# Altium footprint library QFN40P1050X650X90_HS-77N.PcbLib: 1 footprints
Each footprint in its own frame and in the unit in brackets; x right, y up, seen from the top. Pads: shape width x height; smd on the part's side, far side on the other; paste and mask are expansions set on the pad; w line width, h text height; cw(c..) or ccw(c..) is an arc to the next point about the centre after c.
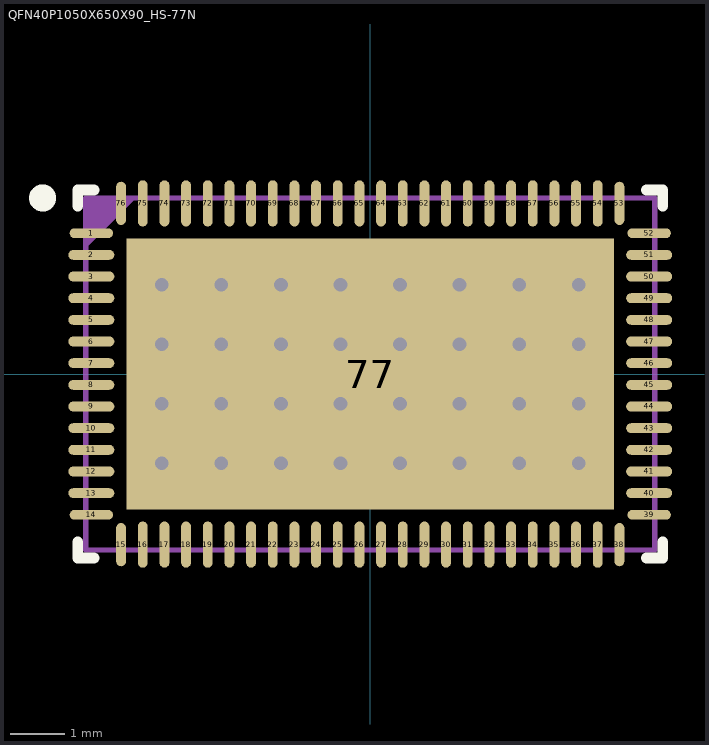
[diagram p0: the footprint, top view; thin cyan lines are the x and y axes]

## QFN40P1050X650X90_HS-77N [mm] "QFN, 76-Leads, Body 10,50x6,50mm, Pitch 0,40mm, Thermal Pad 9,00x5,00mm, IPC Medium Density"
height 0.9
pads (77):
  oval 0.8x0.182 smd mask+0.051: 1(-5.15,2.6) 14(-5.15,-2.6) 39(5.15,-2.6) 52(5.15,2.6)
  oval 0.85x0.182 smd mask+0.051: 2(-5.15,2.2) 3(-5.15,1.8) 4(-5.15,1.4) 5(-5.15,1) 6(-5.15,0.6) 7(-5.15,0.2) 8(-5.15,-0.2) 9(-5.15,-0.6) 10(-5.15,-1) 11(-5.15,-1.4) 12(-5.15,-1.8) 13(-5.15,-2.2) 40(5.15,-2.2) 41(5.15,-1.8) 42(5.15,-1.4) 43(5.15,-1) 44(5.15,-0.6) 45(5.15,-0.2) 46(5.15,0.2) 47(5.15,0.6) 48(5.15,1) 49(5.15,1.4) 50(5.15,1.8) 51(5.15,2.2)
  oval 0.182x0.8 smd mask+0.051: 15(-4.6,-3.15) 38(4.6,-3.15) 53(4.6,3.15) 76(-4.6,3.15)
  oval 0.182x0.85 smd mask+0.051: 16(-4.2,-3.15) 17(-3.8,-3.15) 18(-3.4,-3.15) 19(-3,-3.15) 20(-2.6,-3.15) 21(-2.2,-3.15) 22(-1.8,-3.15) 23(-1.4,-3.15) 24(-1,-3.15) 25(-0.6,-3.15) 26(-0.2,-3.15) 27(0.2,-3.15) 28(0.6,-3.15) 29(1,-3.15) 30(1.4,-3.15) 31(1.8,-3.15) 32(2.2,-3.15) 33(2.6,-3.15) 34(3,-3.15) 35(3.4,-3.15) 36(3.8,-3.15) 37(4.2,-3.15) 54(4.2,3.15) 55(3.8,3.15) 56(3.4,3.15) 57(3,3.15) 58(2.6,3.15) 59(2.2,3.15) 60(1.8,3.15) 61(1.4,3.15) 62(1,3.15) 63(0.6,3.15) 64(0.2,3.15) 65(-0.2,3.15) 66(-0.6,3.15) 67(-1,3.15) 68(-1.4,3.15) 69(-1.8,3.15) 70(-2.2,3.15) 71(-2.6,3.15) 72(-3,3.15) 73(-3.4,3.15) 74(-3.8,3.15) 75(-4.2,3.15)
  rect 9x5 smd: 77(0,0)
via 3.85,-1.65 diameter 0.61 hole 0.254
via 2.75,-1.65 diameter 0.61 hole 0.254
via 1.65,-1.65 diameter 0.61 hole 0.254
via 0.55,-1.65 diameter 0.61 hole 0.254
via -0.55,-1.65 diameter 0.61 hole 0.254
via -1.65,-1.65 diameter 0.61 hole 0.254
via -2.75,-1.65 diameter 0.61 hole 0.254
via -3.85,-1.65 diameter 0.61 hole 0.254
via 3.85,-0.55 diameter 0.61 hole 0.254
via 2.75,-0.55 diameter 0.61 hole 0.254
via 1.65,-0.55 diameter 0.61 hole 0.254
via 0.55,-0.55 diameter 0.61 hole 0.254
via -0.55,-0.55 diameter 0.61 hole 0.254
via -1.65,-0.55 diameter 0.61 hole 0.254
via -2.75,-0.55 diameter 0.61 hole 0.254
via -3.85,-0.55 diameter 0.61 hole 0.254
via 3.85,0.55 diameter 0.61 hole 0.254
via 2.75,0.55 diameter 0.61 hole 0.254
via 1.65,0.55 diameter 0.61 hole 0.254
via 0.55,0.55 diameter 0.61 hole 0.254
via -0.55,0.55 diameter 0.61 hole 0.254
via -1.65,0.55 diameter 0.61 hole 0.254
via -2.75,0.55 diameter 0.61 hole 0.254
via -3.85,0.55 diameter 0.61 hole 0.254
via 3.85,1.65 diameter 0.61 hole 0.254
via 2.75,1.65 diameter 0.61 hole 0.254
via 1.65,1.65 diameter 0.61 hole 0.254
via 0.55,1.65 diameter 0.61 hole 0.254
via -0.55,1.65 diameter 0.61 hole 0.254
via -1.65,1.65 diameter 0.61 hole 0.254
via -2.75,1.65 diameter 0.61 hole 0.254
via -3.85,1.65 diameter 0.61 hole 0.254
Top Overlay:
  circle w0.25: c-6.05,3.25 r0.125
  lines w0.2: -5.4,-3.1 -5.4,-3.4 -5.1,-3.4 ; -5.4,3.1 -5.4,3.4 -5.1,3.4 ; 5.1,-3.4 5.4,-3.4 5.4,-3.1 ; 5.1,3.4 5.4,3.4 5.4,3.1
Mechanical 29:
  region: -5.25,3.25 -5.25,2.318 -4.318,3.25
  lines w0.1: -5.25,-3.25 -5.25,3.25 5.25,3.25 5.25,-3.25 -5.25,-3.25
  text ".Designator" at -3.014,-0.451 h1
3D body "QFN40P1050X650X90_HS-77N.step": height 0.9, standoff 0, extent -5.251,-3.251 5.251,3.251